# Altium footprint library HOLDER 18650X2.PcbLib: 1 footprints
Each footprint in its own frame and in the unit in brackets; x right, y up, seen from the top. Pads: shape width x height; smd on the part's side, far side on the other; paste and mask are expansions set on the pad; w line width, h text height; cw(c..) or ccw(c..) is an arc to the next point about the centre after c.
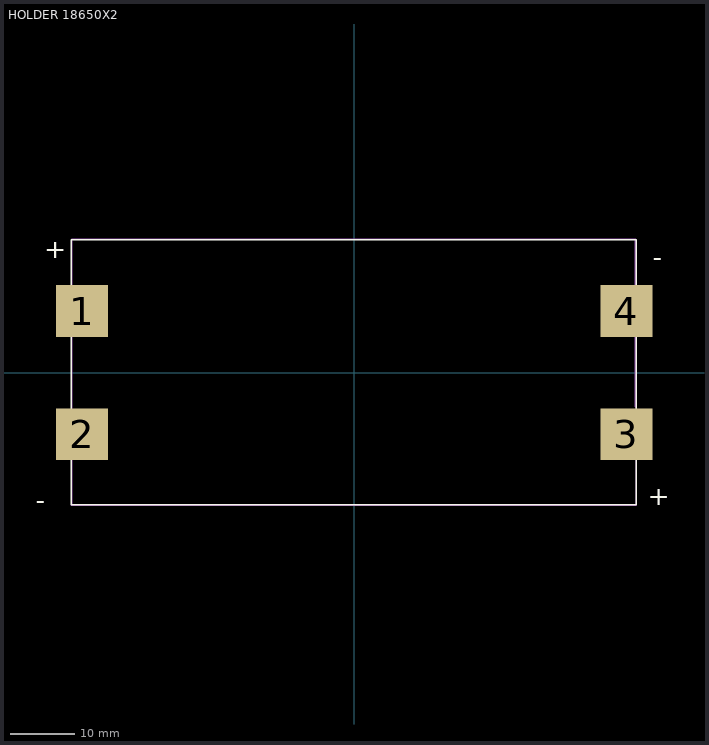
[diagram p0: the footprint, top view; thin cyan lines are the x and y axes]

## HOLDER 18650X2 [mm]
height 0.55
pads (4):
  rect 8x8 / inner rect 3x8 / far side rect 0x0 all layers, no hole: 1(-42,9.5) 2(-42,-9.5) 3(42,-9.5) 4(42,9.5)
Top Overlay:
  lines w0.2: -43.7,-20.4 -43.7,20.5 43.5,20.5 43.5,-20.4 -43.7,-20.4
  text "-" at -49.146,-21.046 h3
  text "-" at 46.054,16.454 h3
  text "+" at 45.254,-20.446 h3
  text "+" at -47.846,17.654 h3
Top Assembly:
  lines w0.254: 43.4,-5.2 43.4,20.6 -43.6,20.6 -43.6,-5.2 -43.6,-20.3 -43.7,-20.4 43.5,-20.4 43.5,20.5
  text "'.Designator'" at -0.975,-0.35 h0.7
3D body "User Library-Blossom 1048.STEP": height 14.93, standoff -1.48, extent -43.002,-19.888 43.002,19.888